# Altium schematic symbol library Diode.SchLib: 1 symbol
Pins are listed as number, name and electrical type; pins without a type are passive.

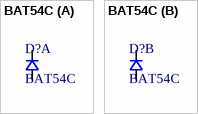
[diagram p0: symbol BAT54C]

## BAT54C
designator D?
dual schottky barrier diode, common cathode
footprint SOT-23-3
part A pins: 1, 3
part B pins: 2